# Altium footprint library Electric_Interface_Lio.PcbLib: 10 footprints
Each footprint in its own frame and in the unit in brackets; x right, y up, seen from the top. Pads: shape width x height; smd on the part's side, far side on the other; paste and mask are expansions set on the pad; w line width, h text height; cw(c..) or ccw(c..) is an arc to the next point about the centre after c.
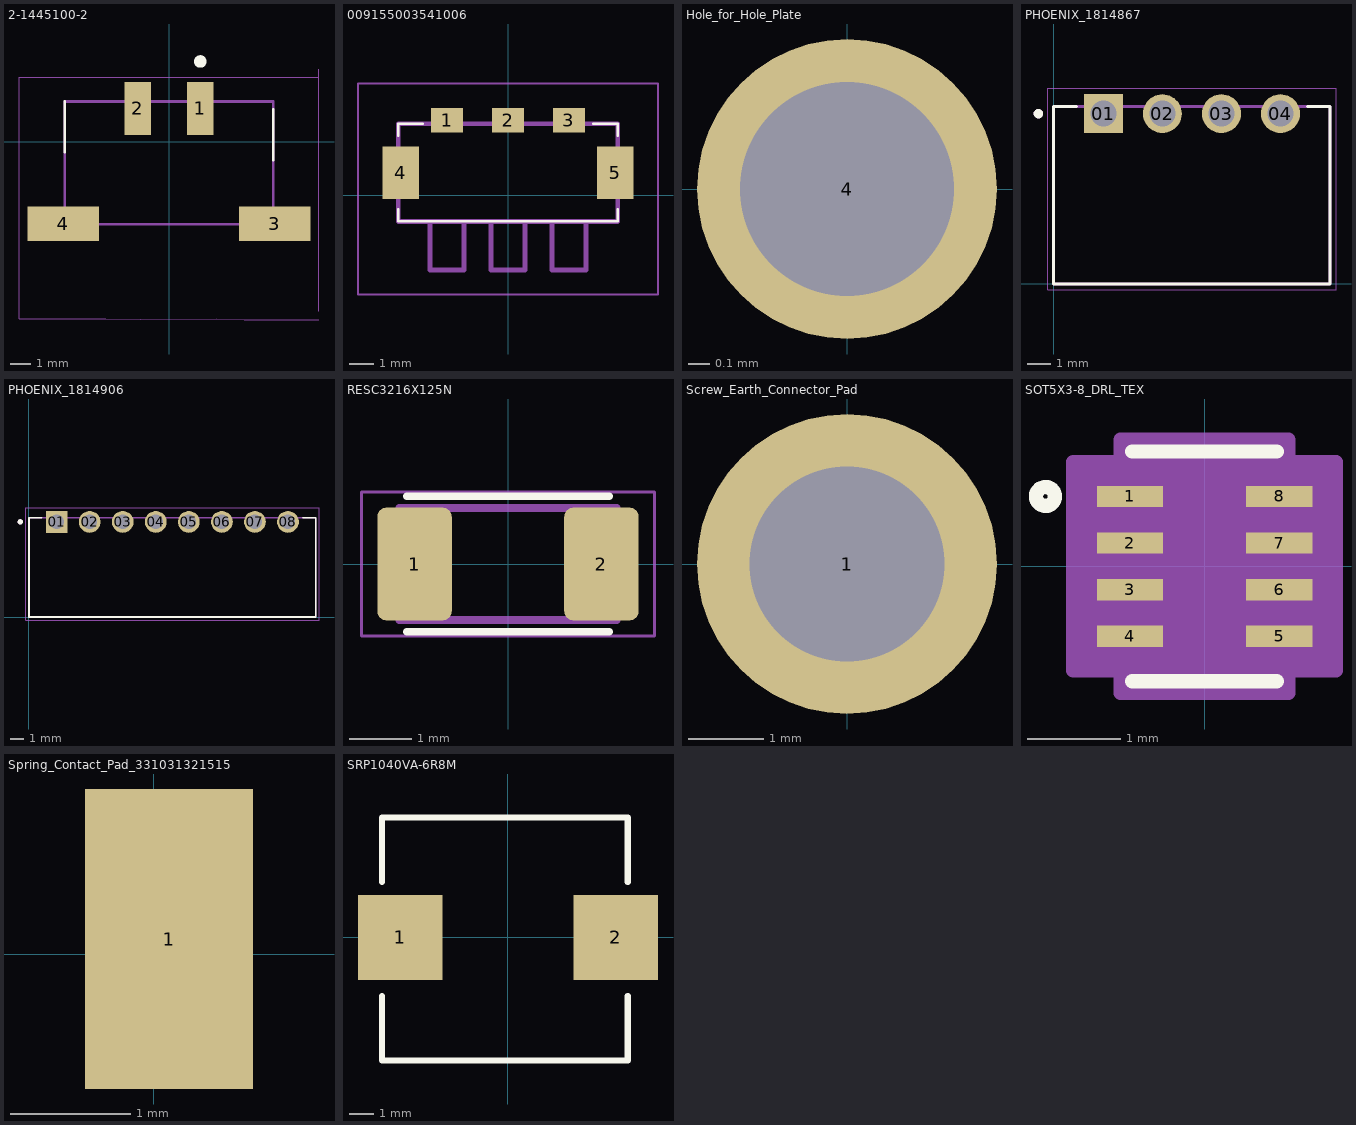
[diagram p0: the footprints below, top view; thin cyan lines are the x and y axes]

## 2-1445100-2 [mm]
pads (4):
  rect 1.27x2.54 smd: 1(1.5,1.6) 2(-1.5,1.6)
  rect 3.43x1.65 smd: 3(5.08,-3.937) 4(-5.08,-3.937)
Top Overlay:
  circle w0.3: c1.5,3.85 r0.15
  lines w0.127: -5,-0.5 -5,1.93 ; 5,-0.881 5,1.549
Mechanical 13:
  lines w0.127: -5,-3.962 -2.5,-3.962 2.5,-3.962 5,-3.962 ; -5,-3.937 -5,1.93 5,1.93 5,-3.937
Mechanical 15:
  lines w0.05: 7.2,-8.542 6.3,-8.542 4.5,-8.542 3.6,-8.542 2.286,-8.509 -1.386,-8.517 -3.048,-8.509 -7.2,-8.509 -7.2,3.1 -3.6,3.1 3.6,3.1 7.2,3.1 ; 7.2,-8.128 7.2,3.481
3D body "2-1445100-2.stp": height 5.63, standoff -0.04, extent -6.625,-8.493 6.625,2.667

## 009155003541006 [mm]
pads (5):
  rect 1.3x1 smd: 1(-2.5,3.075) 2(0,3.075) 3(2.5,3.075)
  rect 1.5x2.15 smd: 4(-4.4,0.925) 5(4.4,0.925)
Top Overlay:
  lines w0.1: -4.5,-0.575 -4.5,-1.075 4.5,-1.075 4.5,-0.575 ; -4.5,2.425 -4.5,2.925 -3.5,2.925 ; 3.5,2.925 4.4,2.925 4.5,2.925 4.5,2.425
Mechanical 13:
  lines w0.2: -3.2,-1.075 -3.2,-3.075 -1.8,-3.075 -1.8,-1.075 ; -0.7,-1.075 -0.7,-3.075 0.7,-3.075 0.7,-1.075 ; 1.8,-1.075 1.8,-3.075 3.2,-3.075 3.2,-1.075 ; -4.5,-1.075 4.5,-1.075 4.5,2.925 -4.5,2.925 -4.5,-1.075
Mechanical 15:
  lines w0.1: -6.15,-4.075 6.15,-4.075 6.15,4.575 -6.15,4.575 -6.15,-4.075
3D body "009155003541006.stp": height 3.8, standoff -0.1, extent -5,-3.048 5,3.452

## Hole_for_Hole_Plate [mm]
pads (1):
  round 1.4 hole 1: 4(0,0)

## PHOENIX_1814867 [mm]
pads (4):
  rect 1.65x1.65 / inner round 1.65 / far side rect 1.65x1.65 hole 1.1: 01(2.1,7.2)
  round 1.65 hole 1.1: 02(4.6,7.2) 03(7.1,7.2) 04(9.6,7.2)
Top Overlay:
  circle w0.2: c-0.65,7.2 r0.1
  lines w0.127: 0.955,7.5 0,7.5 0,0 11.7,0 11.7,7.5 10.745,7.5
Mechanical 13:
  circle w0.2: c-0.65,7.2 r0.1
  lines w0.127: 0,0 0,7.5 11.7,7.5 11.7,0 0,0
Mechanical 15:
  lines w0.05: -0.25,-0.25 -0.25,8.275 11.95,8.275 11.95,-0.25 -0.25,-0.25
3D body "1814867.stp": height 5, standoff -2.1, extent -0.016,0.039 11.684,7.835

## PHOENIX_1814906 [mm]
pads (8):
  rect 1.65x1.65 / inner round 1.65 / far side rect 1.65x1.65 hole 1.1: 01(2.1,7.2)
  round 1.65 hole 1.1: 02(4.6,7.2) 03(7.1,7.2) 04(9.6,7.2) 05(12.1,7.2) 06(14.6,7.2) 07(17.1,7.2) 08(19.6,7.2)
Top Overlay:
  circle w0.2: c-0.65,7.2 r0.1
  lines w0.127: 0.955,7.5 0,7.5 0,0 21.7,0 21.7,7.5 20.745,7.5
Mechanical 13:
  circle w0.2: c-0.65,7.2 r0.1
  lines w0.127: 0,0 0,7.5 21.7,7.5 21.7,0 0,0
Mechanical 15:
  lines w0.05: -0.25,-0.25 -0.25,8.275 21.95,8.275 21.95,-0.25 -0.25,-0.25
3D body "1814906.stp": height 5, standoff -2.1, extent 0.017,0.039 21.717,7.835

## RESC3216X125N [mm]
pads (2):
  rrect25% 1.2x1.82 smd: 1(-1.505,0) 2(1.505,0)
Top Overlay:
  lines w0.127: -1.63,-1.09 1.63,-1.09 ; -1.63,1.09 1.63,1.09
Mechanical 13:
  lines w0.127: -1.75,-0.9 1.75,-0.9 1.75,0.9 -1.75,0.9 -1.75,-0.9
Mechanical 15:
  lines w0.05: -2.36,-1.16 2.36,-1.16 2.36,1.16 -2.36,1.16 -2.36,-1.16

## Screw_Earth_Connector_Pad [mm]
pads (1):
  round 4 hole 2.6: 1(0,0)

## SOT5X3-8_DRL_TEX [mil]
pads (8):
  rect 28x9 smd paste+0 mask+0: 1(-31.5,29.54) 2(-31.5,9.85) 3(-31.5,-9.85) 4(-31.5,-29.54) 5(31.5,-29.54) 6(31.5,-9.85) 7(31.5,9.85) 8(31.5,29.54)
Top Overlay:
  circle w6: c-67.19,29.54 r4
  lines w6: -30.5,-48.5 30.5,-48.5 ; -30.5,48.5 30.5,48.5
Mechanical 13:
  circle w0: c-17.5,29.54 r3
  lines w0: -12,43.5 ccw(c0,43.5) 12,43.5
  lines w1: -25.5,-43.5 -25.5,43.5 25.5,43.5 25.5,-43.5 -25.5,-43.5
Mechanical 15:
  region: -35.5,-44.03 -55.5,-44.03 -55.5,44.03 -35.5,44.03 -35.5,53.5 35.5,53.5 35.5,44.03 55.5,44.03 55.5,-44.03 35.5,-44.03 35.5,-53.5 -35.5,-53.5
  lines w6: -55.5,-44.03 -35.5,-44.03 -35.5,-53.5 35.5,-53.5 35.5,-44.03 55.5,-44.03 55.5,44.03 35.5,44.03 35.5,53.5 -35.5,53.5 -35.5,44.03 -55.5,44.03 -55.5,-44.03
3D body "SOT5X3-8_DRL_TEX.step": height 24.09, standoff 0, extent -33.5,-43.5 33.5,43.5

## Spring_Contact_Pad_331031321515 [mm]
pads (1):
  rect 1.4x2.5 smd: 1(0.127,0.127)

## SRP1040VA-6R8M [mm]
height 3.8
pads (2):
  rect 3.5x3.5 smd: 1(-4.45,0) 2(4.45,0)
Top Overlay:
  lines w0.254: -5.212,-2.413 -5.212,-5.08 4.948,-5.08 4.948,-2.413 ; -5.212,2.286 -5.212,2.953 -5.212,4.286 -5.212,4.953 4.948,4.953 4.948,2.286
3D body "SRP1040VA SERIES.stp": height 3.81, standoff 0, extent -5.544,-5.08 5.456,4.92